# Altium schematic symbol library LIB.SCHLIB: 15 symbols
Pins are listed as number, name and electrical type; pins without a type are passive.

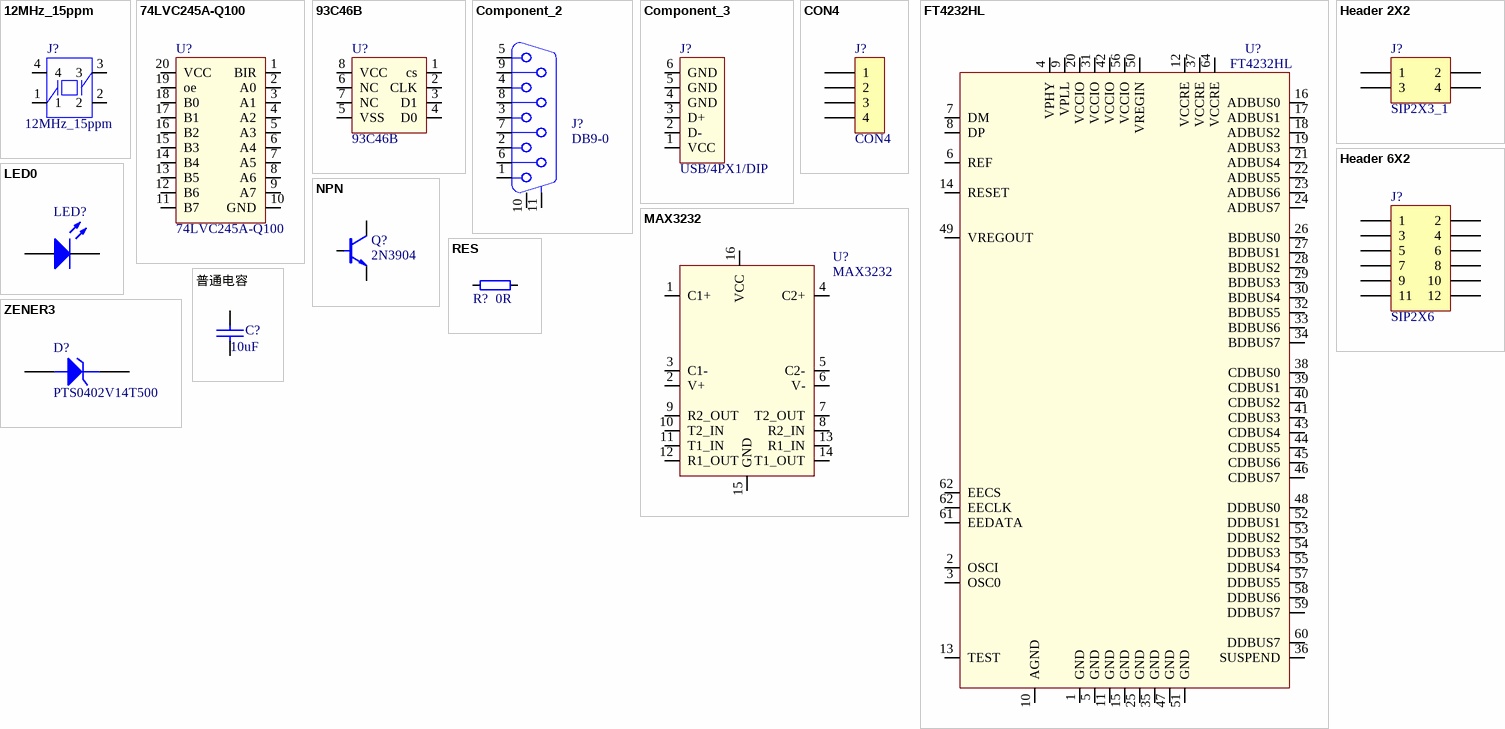
[diagram p0: symbols 12MHz_15ppm to 普通电容]

## 12MHz_15ppm
designator J?
footprint HDR2X2 (Connector; Header; 2x2 Position)
pins: 1, 2, 3, 4

## 74LVC245A-Q100
designator U?
footprint TSSOP20 (Footprint not found)
pins: 1 BIR, 2 A0, 3 A1, 4 A2, 5 A3, 6 A4, 7 A5, 8 A6, 9 A7, 10 GND, 11 B7, 12 B6, 13 B5, 14 B4, 15 B3, 16 B2, 17 B1, 18 B0, 19 oe, 20 VCC

## 93C46B
designator U?
footprint SOP8 (Footprint not found)
pins: 1 cs, 2 CLK, 3 D1, 4 D0, 5 VSS, 6 NC, 7 NC, 8 VCC

## Component_2
designator J?, comment DB9-0
footprint VGA-9-F (Footprint not found)
pins: 1, 2, 3, 4, 5, 6, 7, 8, 9, 10, 11

## Component_3
designator J?, comment USB/4PX1/DIP
footprint USB-B-4P-H (Footprint not found)
pins: 1 VCC, 2 D-, 3 D+, 4 GND, 5 GND, 6 GND

## CON4
designator J?
Connector
footprint HDR1X4 (Connector; Header; 4 Position)
pins: 1, 2, 3, 4

## FT4232HL
designator U?
footprint LQFP64 (Footprint not found)
pins: 1 GND, 2 OSCI, 3 OSC0, 4 VPHY, 5 GND, 6 REF, 7 DM, 8 DP, 9 VPLL, 10 AGND, 11 GND, 12 VCCRE, 13 TEST, 14 RESET, 15 GND, 16 ADBUS0, 17 ADBUS1, 18 ADBUS2, 19 ADBUS3, 20 VCCIO, 21 ADBUS4, 22 ADBUS5, 23 ADBUS6, 24 ADBUS7, 25 GND, 26 BDBUS0, 27 BDBUS1, 28 BDBUS2, 29 BDBUS3, 30 BDBUS4, 31 VCCIO, 32 BDBUS5, 33 BDBUS6, 34 BDBUS7, 35 GND, 36 SUSPEND, 37 VCCRE, 38 CDBUS0, 39 CDBUS1, 40 CDBUS2, 41 CDBUS3, 42 VCCIO, 43 CDBUS4, 44 CDBUS5, 45 CDBUS6, 46 CDBUS7, 47 GND, 48 DDBUS0, 49 VREGOUT, 50 VREGIN, 51 GND, 52 DDBUS1, 53 DDBUS2, 54 DDBUS3, 55 DDBUS4, 56 VCCIO, 57 DDBUS5, 58 DDBUS6, 59 DDBUS7, 60 DDBUS7, 61 EEDATA, 62 EECLK, 62 EECS, 64 VCCRE

## Header 2X2
designator J?, comment SIP2X3_1
Header, 2-Pin, Dual row; LatestRevisionDate: 17-Jul-2002; LatestRevisionNote: Re-released for DXP Platform.; Publisher: Altium Limited
footprint HDR2X2 (Connector; Header; 2x2 Position)
signal-integrity model Connector
pins: 1, 2, 3, 4

## Header 6X2
designator J?, comment SIP2X6
Header, 6-Pin, Dual row; LatestRevisionDate: 17-Jul-2002; LatestRevisionNote: Re-released for DXP Platform.; Publisher: Altium Limited
footprint HDR2X6 (Connector; Header; 6x2 Position)
signal-integrity model Connector
pins: 1, 2, 3, 4, 5, 6, 7, 8, 9, 10, 11, 12

## LED0
designator LED?, comment LED  (value not drawn)
Typical INFRARED GaAs LED; Published: 8-Jun-2000; LatestRevisionDate: 08-Jul-2005; LatestRevisionNote: Mech Layer 1 removed.; PackageReference: LED-0; Publisher: Altium Limited; PackageDescription: LED; 2 Leads
simulation model LED0 (Diode)
footprint LED-1
pins: 1 A, 2 K

## MAX3232
designator U?
footprint SOP16 (Footprint not found)
pins: 1 C1+, 2 V+, 3 C1-, 4 C2+, 5 C2-, 6 V-, 7 T2_OUT, 8 R2_IN, 9 R2_OUT, 10 T2_IN, 11 T1_IN, 12 R1_OUT, 13 R1_IN, 14 T1_OUT, 15 GND, 16 VCC

## NPN
designator Q?, comment 2N3904
footprint TO-92A (TO, Flat Index; 3 In-Line, Axial Leads; Body Dia. 4.5mm; Leads 0.51 x 0.48 mm (max))
pins: 1 b, 2 e, 3 c

## RES
designator R?, comment 0R
footprint C1206
pins: 1, 2

## ZENER3
designator D?, comment PTS0402V14T500
Zener Diode
footprint DO-204AL (Diode, Axial; Body 5.2 x 2.7 mm (LxDia. max), Lead Dia. 0.86 mm (max))
pins: 1 A, 2 K

## 普通电容
designator C?  value 10uF  (hidden comment: 普通电容)
Capacitor
footprint 6-0805_L
pins: 1, 2